# Altium schematic symbol library Schlib_N.SchLib: 4 symbols
Pins are listed as number, name and electrical type; pins without a type are passive.

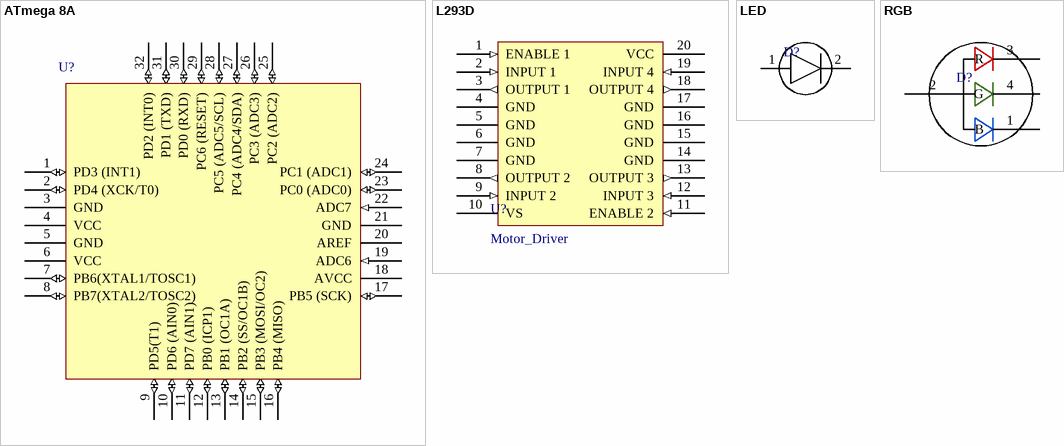
[diagram p0: symbols ATmega 8A to RGB]

## ATmega 8A
designator U?
8KB 1KB FLASH 23 2.7V~5.5V AVR 16MHz TQFP-32(7x7) Microcontrollers (MCU/MPU/SOC) ROHS; manufacturer: Microchip Tech; Mfr. Part #: ATMEGA8A-AU; supplier: LCSC; supplier Part #: C16190
footprint ATmega 8A
pins: 1 PD3 (INT1) (io), 2 PD4 (XCK/T0) (io), 3 GND, 4 VCC, 5 GND, 6 VCC, 7 PB6(XTAL1/TOSC1) (io), 8 PB7(XTAL2/TOSC2) (io), 9 PD5(T1) (io), 10 PD6 (AIN0) (io), 11 PD7 (AIN1) (io), 12 PB0 (ICP1) (io), 13 PB1 (OC1A) (io), 14 PB2 (SS/OC1B) (io), 15 PB3 (MOSI/OC2) (io), 16 PB4 (MISO) (io), 17 PB5 (SCK) (io), 18 AVCC, 19 ADC6 (in), 20 AREF, 21 GND, 22 ADC7 (in), 23 PC0 (ADC0) (io), 24 PC1 (ADC1) (io), 25 PC2 (ADC2) (io), 26 PC3 (ADC3) (io), 27 PC4 (ADC4/SDA) (io), 28 PC5 (ADC5/SCL) (io), 29 PC6 (RESET) (io), 30 PD0 (RXD) (io), 31 PD1 (TXD) (io), 32 PD2 (INT0) (io)

## L293D
designator U?, comment Motor_Driver
SOIC-20-300mil Stepper Motor Driver ROHS; manufacturer: STMicroelectronics; Mfr. Part #: L293DD013TR; supplier: LCSC; supplier Part #: C21610
footprint L293D
pins: 1 ENABLE 1 (in), 2 INPUT 1 (in), 3 OUTPUT 1 (out), 4 GND, 5 GND, 6 GND, 7 GND, 8 OUTPUT 2 (out), 9 INPUT 2 (in), 10 VS, 11 ENABLE 2 (in), 12 INPUT 3 (in), 13 OUTPUT 3 (out), 14 GND, 15 GND, 16 GND, 17 GND, 18 OUTPUT 4 (out), 19 INPUT 4 (in), 20 VCC

## LED
designator D?
360mcd 515nm~530nm Emerald 1206 LED Indication - Discrete ROHS; manufacturer: Everlight Elec; Mfr. Part #: 15-21/GHC-XS1T1/3T; supplier: LCSC; supplier Part #: C2984261
footprint LED
pins: 1, 2

## RGB
designator D?
SMD,1.5x3mm RGB LEDs ROHS /; manufacturer: MEIHUA; Mfr. Part #: MHS110RGBCT; supplier: LCSC; supplier Part #: C389528
footprint RGB
pins: 1 B, 2 Anode, 3 R, 4 G